# EAGLE library part SCREWTERMINAL-3.5MM-6 (library libredaq-comps)
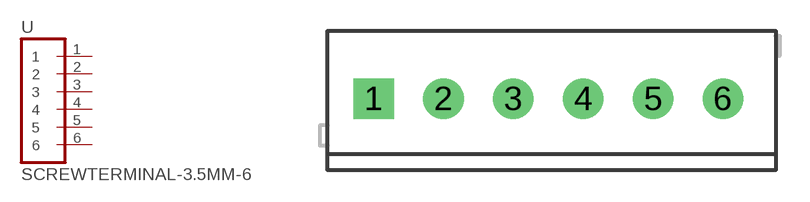
[diagram p14: symbol with the pads of SCREWTERMINAL-3.5MM-6; footprint SCREWTERMINAL-3.5MM-6]

Designator prefix -

## SCREWTERMINAL-3.5MM-6  [SCREWTERMINAL-3.5MM-6]
1  1
2  2
3  3
4  4
5  5
6  6

## Footprint SCREWTERMINAL-3.5MM-6 (pad centres in mm)
drill 1.2 pad 2.032 square: 1 0,0
drill 1.2 pad 2.032: 2 3.5,0; 3 7,0; 4 10.5,0; 5 14,0; 6 17.5,0